# EAGLE library part SP490 (library SP491)
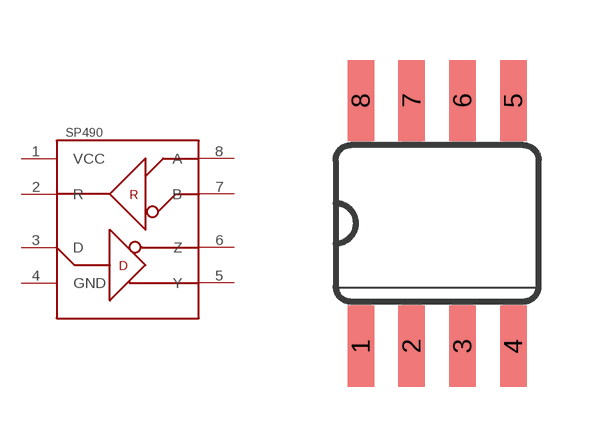
[diagram p0: symbol with the pads of SO08; footprint SO08]

Designator prefix -

## SP490  [SO08]
1  VCC
2  R
3  D
4  GND
5  Y
6  Z
7  B
8  A

## Footprint SO08 (pad centres in mm)
Small Outline Package
smd 0.66 x 2.032: 1 -1.905,-3.073; 2 -0.635,-3.073; 3 0.635,-3.073; 4 1.905,-3.073; 5 1.905,3.073; 6 0.635,3.073; 7 -0.635,3.073; 8 -1.905,3.073